# EAGLE library part TPS3700DDCR2 (library PowerBoardLib1)
None
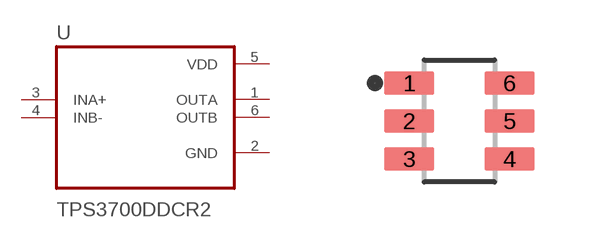
[diagram p0: symbol with the pads of SOT95P280X110-6N; footprint SOT95P280X110-6N]

Designator prefix U

## TPS3700DDCR2 (Manufacturer: Texas Instruments; Package: SOT95P280X110-6N)  [SOT95P280X110-6N]
1  OUTA  out
2  GND  pwr
3  INA+  in
4  INB-  in
5  VDD  pwr
6  OUTB  out

## Footprint SOT95P280X110-6N (pad centres in mm)
smd 1.25 x 0.59: 1 -1.255,0.95; 2 -1.255,0; 3 -1.255,-0.95; 4 1.255,-0.95; 5 1.255,0; 6 1.255,0.95